# EAGLE library part BC847PN (library geoffculp)
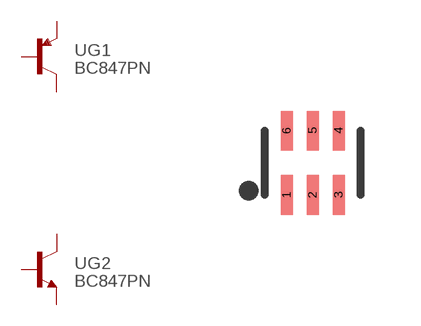
[diagram p235: symbol with the pads of SOT363; footprint SOT363]

Designator prefix -; gates G1=PNP G2=NPN

## BC847PN  [SOT363]
1  G1:E  pas
2  G1:B  pas
3  G2:C  pas
4  G2:E  pas
5  G2:B  pas
6  G1:C  pas

## Footprint SOT363 (pad centres in mm)
smd 0.3 x 0.99: 1 -0.65,-0.8; 2 0,-0.8; 3 0.65,-0.8; 4 0.65,0.81; 5 0,0.81; 6 -0.65,0.81